# Altium integrated library Linear Technology PMIC-Switching Reg LTC1174-LTC3901.IntLib: 2647 symbols (part 66 of 310)
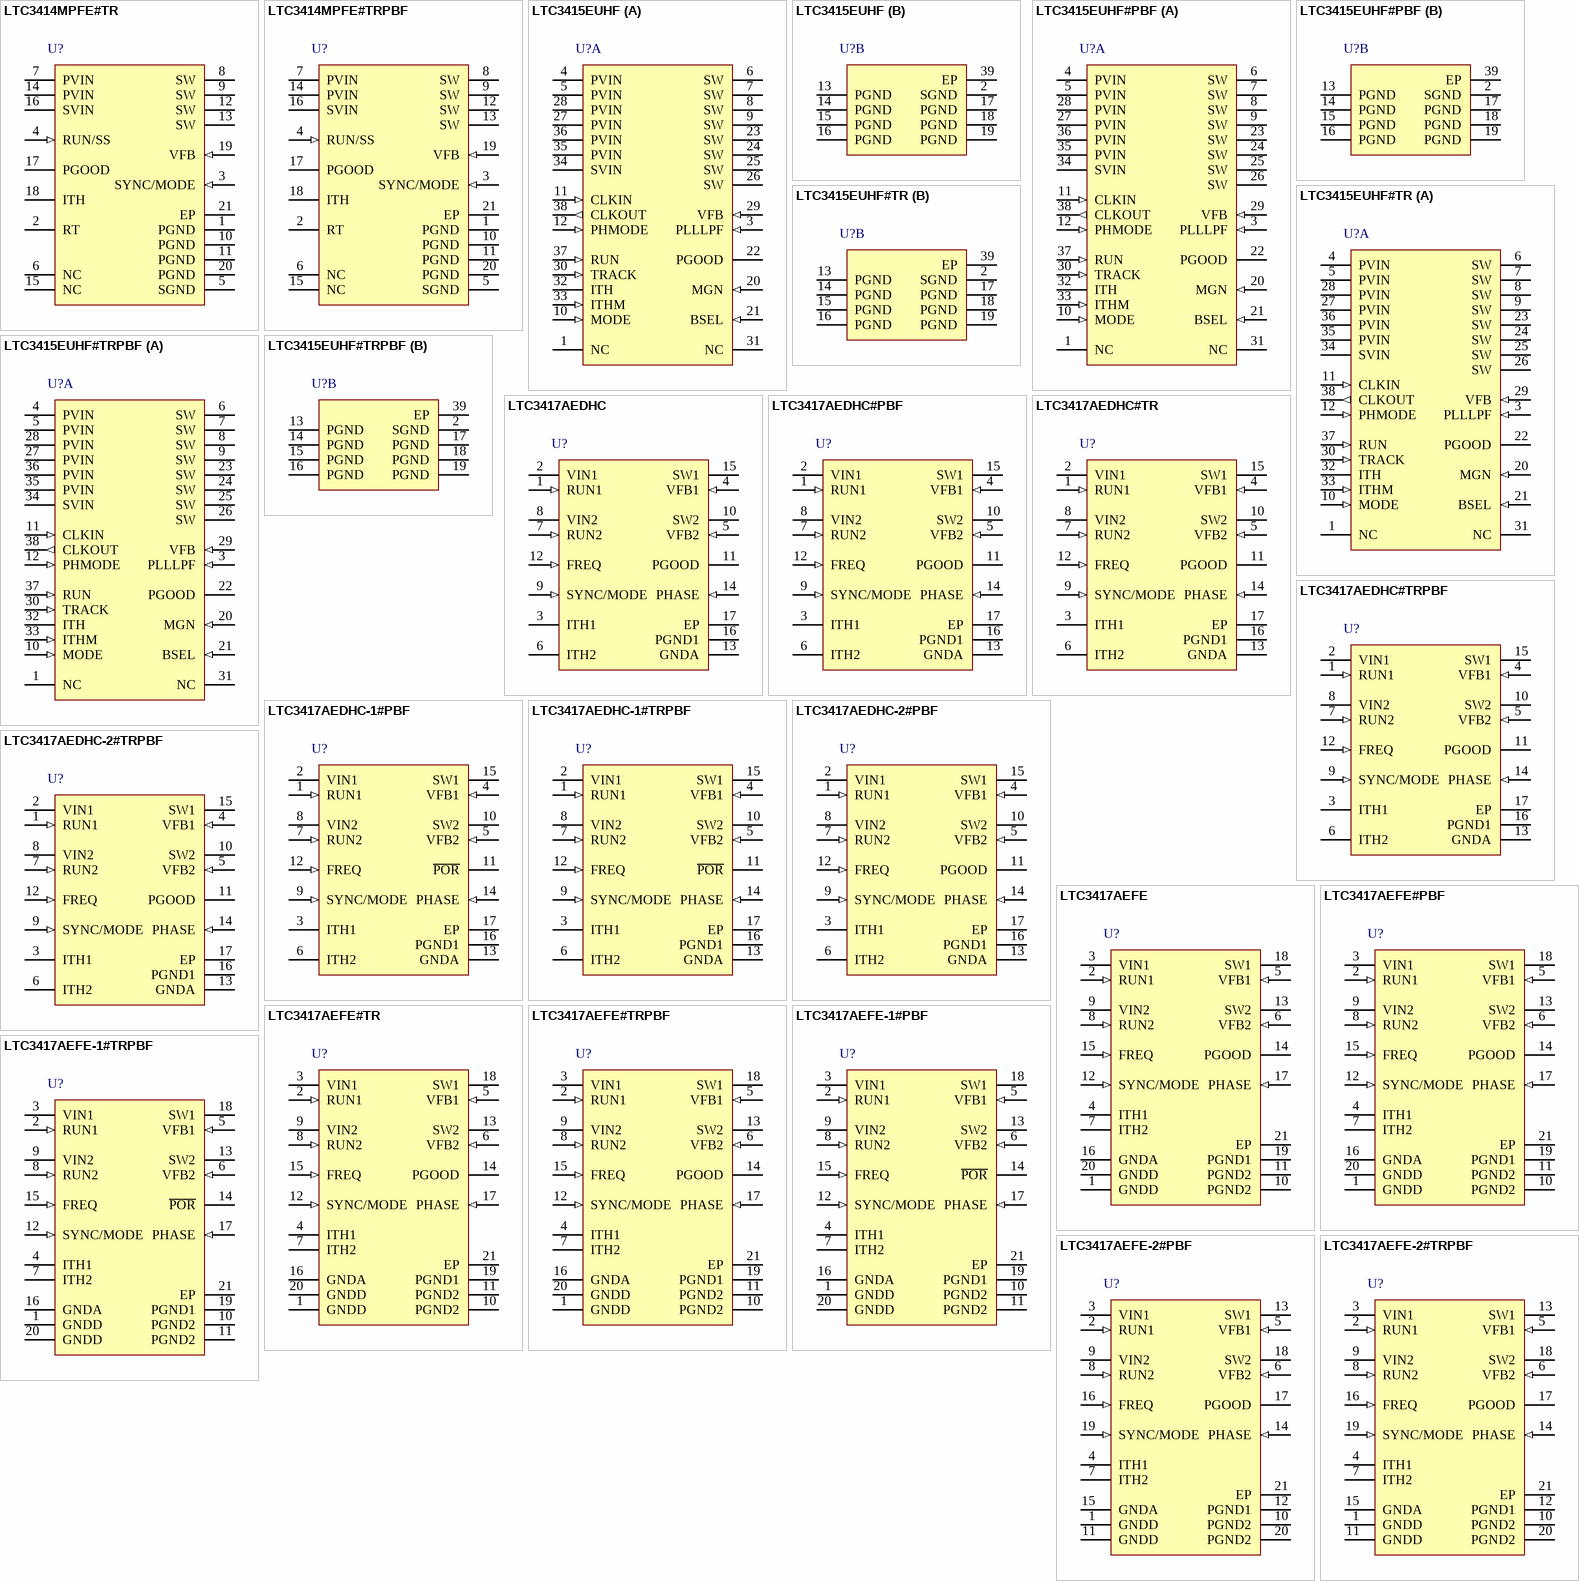
[diagram p253: symbols LTC3414MPFE#TR to LTC3417AEFE-2#TRPBF]

## LTC3417AEDHC-1#TRPBF
designator U?
Dual Synchronous 1.5 A / 1 A 4 MHz Step-Down DC/DC Regulator with POR, 16-pin SON (DHC-16), -40 to 85 degC, Pb-Free, Tape and Reel; Manufacturer: Linear Technology; PartNumber: LTC3417AEDHC-1#TRPBF; Number of Outputs: 2; PackageReference: DHC-16; PackageDescription: 16-Pin Plastic DFN, Body 5 x 3 mm, Pitch 0.5 mm; Supplier 1: Digi-Key; Supplier Part Number 1: LTC3417AEDHC-1#TRPBF-ND; RoHS: TRUE; Code_JEDEC: MO-229
footprint LT-DHC-16_V (SON, 16-Leads, Body 5x3mm, Pitch 0.5mm, Thermal Pad 4.4X1.65mm)
pins: 1 RUN1 (in) "Enable for 1.5A Regulator. When at Logic 1, 1.5A regulator is running. When at 0V, 1.5A regulator is off. When both RUN1 and RUN2 are at 0V, the part is in shutdown.", 2 VIN1 (power) "Supply Pin for P-Channel Switch of 1.5A Regulator.", 3 ITH1 "Error Amplifier Compensation Point for 1.5A Regulator. The current comparator threshold increases with this control voltage. Nominal voltage range for this pin is 0V to 1.5V.", 4 VFB1 (in) "Receives the feedback voltage from external resistive divider across the 1.5A regulator output. Nominal voltage for this pin is 0.8V.", 5 VFB2 (in) "Receives the feedback voltage from external resistive divider across the 1A regulator output. Nominal voltage for this pin is 0.8V.", 6 ITH2 "Error Amplifier Compensation Point for 1A regulator. The current comparator threshold increases with this control voltage. Nominal voltage range for this pin is 0V to 1.5V.", 7 RUN2 (in) "Enable for 1A Regulator. When at Logic 1, 1A regulator is running. When at 0V, 1A regulator is off. When both RUN1 and RUN2 are at 0V, the part is in shutdown.", 8 VIN2 (power) "Supply Pin for P-Channel Switch of 1A Regulator and Supply for Analog Circuitry.", 9 SYNC/MODE (in) "Combination Mode Selection and Oscillator Synchronization Pin. This pin controls the operation of the device. When the voltage on the SYNC/MODE pin is >(VIN - 0.5V), Burst Mode operation is selected. When the voltage on the (See Datasheet)", 10 SW2 (power) "Switch Node Connection to the Inductor for the 1A Regulator. This pin swings from VIN2 to PGND2.", 11 ~{POR} (oc) "The Power-On-Reset Pin. This open drain-logic output is pulled to GND when the output voltage of either regulator falls 8% below regulation and goes high approximately 150ms after both regulators are above -6% of regulation. (See Datasheet)", 12 FREQ (in) "Frequency Set Pin. When FREQ is at VIN, internal oscillator runs at 1.5MHz. When a resistor is connected from this pin to ground, the internal oscillator frequency can be varied from 0.6MHz to 4MHz.", 13 GNDA (power) "Analog Ground Pin for Internal Analog Circuitry.", 14 PHASE (in) "Selects 1A regulator switching phase with respect to 1.5A regulator switching. Set to VIN, the 1.5A regulator and the 1A regulator are in phase. When PHASE is at 0V, the 1.5A regulator and the 1A regulator are switching 180 (See Datasheet)", 15 SW1 (power) "Switch Node Connection to the Inductor for the 1.5A Regulator. This pin swings from VIN1 to PGND1", 16 PGND1 (power) "Ground for SW1 N-Channel Driver.", 17 EP (power) "PGND2, GNDD. Ground for SW2 N-channel driver and digital ground for circuit. The Exposed Pad must be soldered to PCB ground"